# Altium footprint library Semiconductors.PcbLib: 6 footprints
Each footprint in its own frame and in the unit in brackets; x right, y up, seen from the top. Pads: shape width x height; smd on the part's side, far side on the other; paste and mask are expansions set on the pad; w line width, h text height; cw(c..) or ccw(c..) is an arc to the next point about the centre after c.
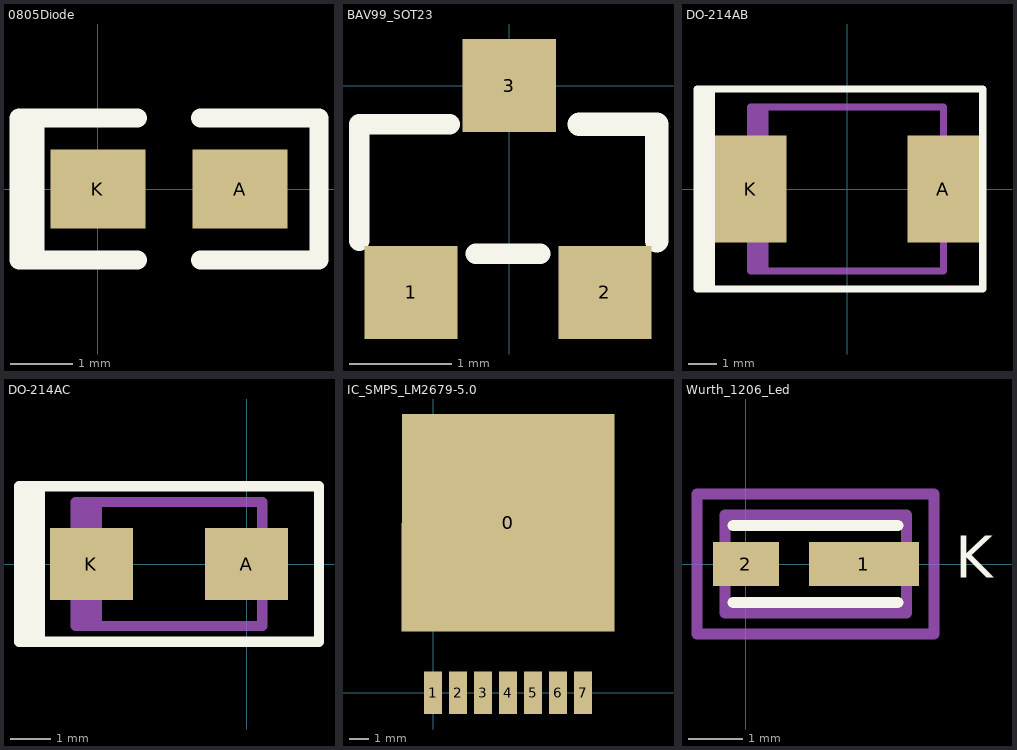
[diagram p0: the footprints below, top view; thin cyan lines are the x and y axes]

## 0805Diode [mil]
pads (2):
  rect 60x50 smd: A(90,0) K(0,0)
Top Overlay:
  lines w12: -40,-45 -40,45 ; 25,-45 -50,-45 -50,45 25,45 ; 65,-45 140,-45 140,45 65,45

## BAV99_SOT23 [mil]
pads (3):
  rect 36x36 smd: 1(-38,-80) 2(37,-80) 3(0,0)
Top Overlay:
  lines w8: -58,-60 -58,-15 -23,-15 ; -13,-65 12,-65
  lines w9: 27,-15 57,-15 57,-60

## DO-214AB [mil]
pads (2):
  rect 100x150 smd: A(135,0) K(-135,0)
Top Overlay:
  lines w10: -200,-140 -200,140 ; -190,-140 -190,140 ; -210,-140 -210,140 190,140 190,-140 -210,-140
Mechanical 3:
  lines w10: -125,-115 -125,115 ; -115,-115 -115,115 ; -135,-115 -135,115 135,115 135,-115 -135,-115

## DO-214AC [mil]
pads (2):
  rect 80x70 smd: A(0,0) K(-150,0)
Top Overlay:
  lines w10: -210,-75 -210,75 ; -200,-75 -200,75 ; -220,-75 -220,75 70,75 70,-75 -220,-75
Mechanical 3:
  lines w10: -155,-60 -155,60 ; -145,-60 -145,60 ; -165,-60 -165,60 15,60 15,-60 -165,-60

## IC_SMPS_LM2679-5.0 [mil]
pads (8):
  rect 425x435 smd: 0(150,340)
  rect 36x85 smd: 1(0,0) 2(50,0) 3(100,0) 4(150,0) 5(200,0) 6(250,0) 7(300,0)

## Wurth_1206_Led [mm]
height 0.8
pads (2):
  rect 2x0.8 smd: 1(2.15,0)
  rect 1.2x0.8 smd: 2(0,0)
Top Overlay:
  lines w0.2: -0.23,-0.7 2.77,-0.7 ; -0.23,0.7 2.77,0.7
  text "K" at 3.81,-0.254 h0.76
Mechanical 13:
  lines w0.2: -0.381,-0.889 2.921,-0.889 2.921,0.889 -0.381,0.889 -0.381,-0.889
Mechanical 15:
  lines w0.2: -0.889,-1.27 -0.889,1.27 3.429,1.27 3.429,-1.27 -0.889,-1.27
  text "K" at 3.81,-0.254 h0.76
  text ".Designator" at 1.27,0 h0.76
3D body: height 0.8, standoff 0, extent -0.23,-0.7 2.77,0.7